# Altium schematic symbol library sensors.SchLib: 4 symbols
Pins are listed as number, name and electrical type; pins without a type are passive.

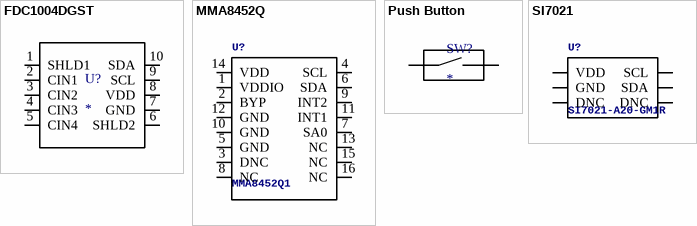
[diagram p0: symbols FDC1004DGST to SI7021]

## FDC1004DGST
designator U?
CAPACITIVE SENSING SOLUTIONS; Manufacturer: Texas Instruments; Manufacturer Part Number: FDC1004DGST; Digi-Key Part Number: 296-49639-1-ND; DigiKeyURL: https://www.digikey.com/products/en/integrated-circuits-ics/interface-sensor-capacitive-touch/560?k=FDC1004DGST&k=&pkeyword=FDC1004DGST&sv=0&pv7=2&sf=0&quantity=&ColumnSort=0&page=1&stock=1&datasheet=1&pageSize=25; Snapeda_URL: https://www.snapeda.com/parts/FDC1004DGST/Texas%20Instruments/view-part/?ref=search&t=FDC1004DGST
footprint FDC1004DGST
pins: 1 SHLD1, 2 CIN1, 3 CIN2, 4 CIN3, 5 CIN4, 6 SHLD2, 7 GND, 8 VDD, 9 SCL, 10 SDA

## MMA8452Q
designator U?, comment MMA8452Q1
ACCELEROMETER 2-8G I2C 16QFN; Manufacturer: NXP USA Inc.; Manufacturer Part Number: MMA8452QR1; Digi-Key Part Number: MMA8452QR1CT-ND; DigiKeyURL: https://www.digikey.com/products/en/sensors-transducers/motion-sensors-accelerometers/515?k=MMA8452Q&k=&pkeyword=MMA8452Q&sv=0&pv7=2&sf=0&FV=ffe00203&quantity=&ColumnSort=0&page=1&stock=1&datasheet=1&pageSize=25; Snapeda_URL: https://www.snapeda.com/parts/MMA8452QR1/NXP%20USA/view-part/?ref=search&t=MMA8452QR1
footprint QFN-16_0.5MM
footprint MMA8452Q1 (QFN-16_0.5MM)
pins: 1 VDDIO, 2 BYP, 3 DNC, 4 SCL, 5 GND, 6 SDA, 7 SA0, 8 NC, 9 INT2, 10 GND, 11 INT1, 12 GND, 13 NC, 14 VDD, 15 NC, 16 NC

## Push Button
designator SW?
SWITCH TACTILE SPST-NO 0.05A 24V; Manufacturer: TE Connectivity ALCOSWITCH Switches; Manufacturer Part Number: FSM6JSMATR; Digi-Key Part Number: 450-2058-1-ND; DigiKeyURL: https://www.digikey.com/products/en?keywords=450-2058-1-ND
footprint Push Button
pins: 1 2, 2, 3 1, 4 1

## SI7021
designator U?, comment SI7021-A20-GM1R
SENS HUMID/TEMP 3.6V I2C 2% 6DFN; Manufacturer: Silicon Labs; Digi-Key Part Number: 336-4380-1-ND; Manufacturer Part Number: SI7021-A20-GM1R; DigiKeyURL: https://www.digikey.com/product-detail/en/silicon-labs/SI7021-A20-GM1R/336-4380-1-ND/8038299; Snapeda_URL: https://www.snapeda.com/parts/SI7021-A20-GM1R/Silicon%20Labs/view-part/?ref=search&t=SI7021-A20-GM1R
footprint SI7021
pins: GND (power), NC@3 DNC (power), NC@4 DNC, SCL, SDA, VDD (power)